# EAGLE library part PCA9306-Q1 (library edid_IC)
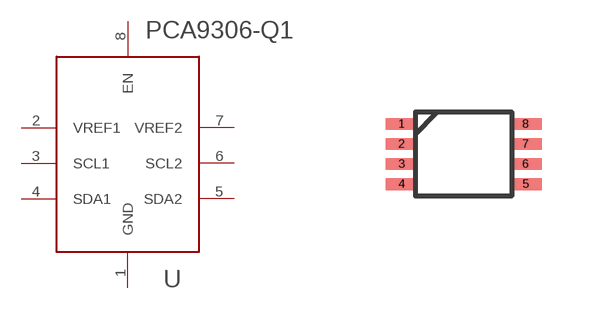
[diagram p0: symbol with the pads of R-PDSO-G8; footprint R-PDSO-G8]

Designator prefix -

## PCA9306-Q1  [R-PDSO-G8]
1  GND  pwr
2  VREF1  pwr
3  SCL1
4  SDA1
5  SDA2
6  SCL2
7  VREF2  pwr
8  EN  in

## Footprint R-PDSO-G8 (pad centres in mm)
smd 0.8 x 0.3: 1 -1.55,0.75; 2 -1.55,0.25; 3 -1.55,-0.25; 4 -1.55,-0.75; 5 1.55,-0.75; 6 1.55,-0.25; 7 1.55,0.25; 8 1.55,0.75